# Altium footprint library Arduino_DUE_V02b.PcbLib: 41 footprints (part 3 of 3)
Each footprint in its own frame and in the unit in brackets; x right, y up, seen from the top. Pads: shape width x height; smd on the part's side, far side on the other; paste and mask are expansions set on the pad; w line width, h text height; cw(c..) or ccw(c..) is an arc to the next point about the centre after c.
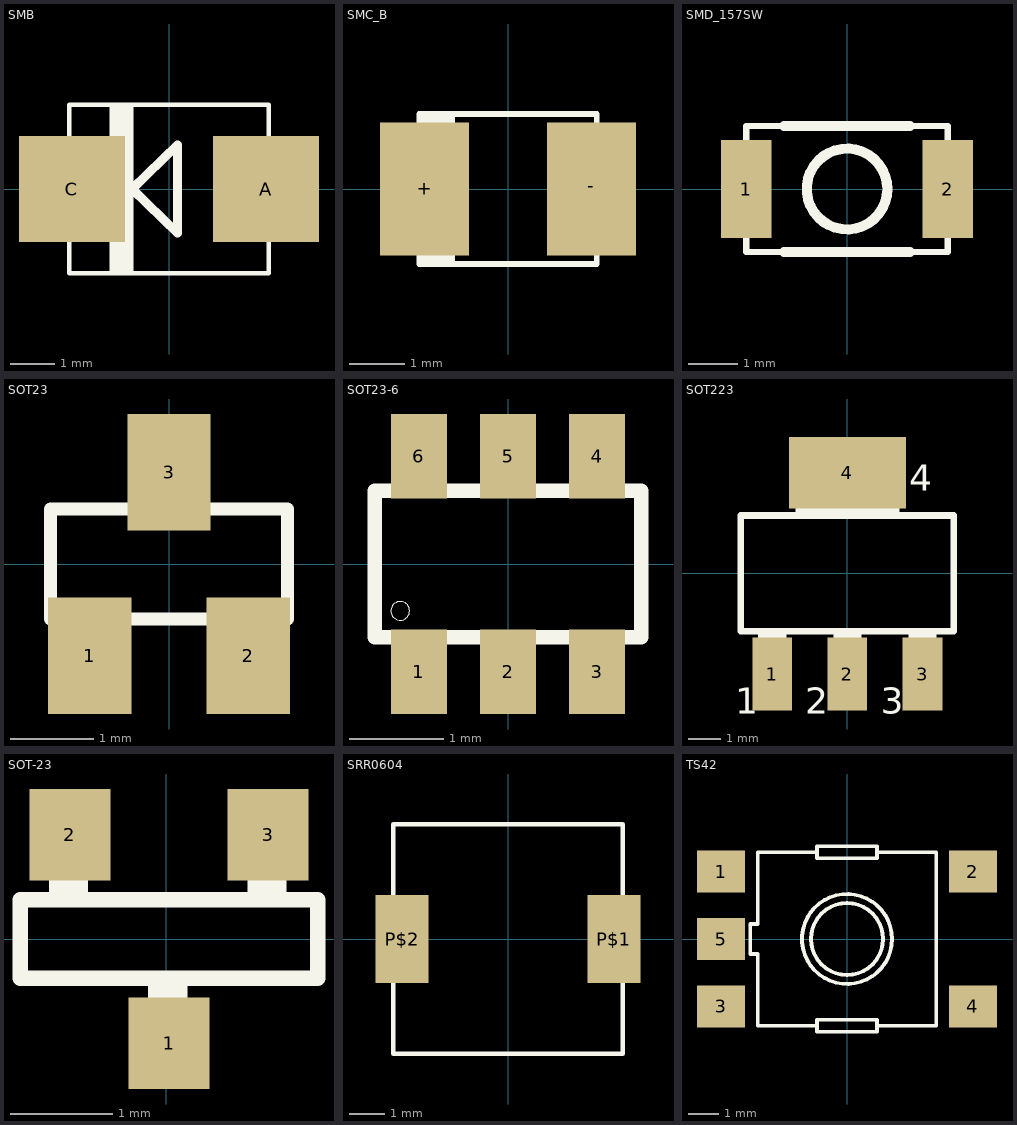
[diagram p2: the footprints below, top view; thin cyan lines are the x and y axes]

## SMB [mm]
pads (2):
  rect 2.4x2.4 smd: A(2.2,0) C(-2.2,0)
Top Overlay:
  rectangle: -1.35,-1.9 -0.8,1.9
  rectangle: 2.261,-1.092 2.794,1.092
  rectangle: -2.794,-1.092 -2.261,1.092
  lines w0.102: -2.261,-1.905 -2.261,1.905 2.261,1.905 2.261,-1.905 -2.261,-1.905
  lines w0.203: -0.83,0 0.193,-1 0.193,1 -0.83,0

## SMC_B [mm]
pads (2):
  rect 1.6x2.4 smd: +(-1.5,0) -(1.5,0)
Top Overlay:
  rectangle: -1.6,-1.35 -0.95,1.35
  region: 1.75,1.1 1.55,1.1 1.55,-1.1 1.75,-1.1
  rectangle: -1.75,-1.1 -1.55,1.1
  lines w0.102: -1.6,-1.35 -1.6,1.35 1.6,1.35 1.6,-1.35 -1.6,-1.35

## SMD_157SW [mil]
pads (2):
  rect 40x78 smd: 1(-80,0) 2(80,0)
Top Overlay:
  circle w5: c0,0 r32.01
  circle w8: c0,0 r32.01
  lines w5: -80,-50 80,-50 80,50 -80,50 -80,-50
  lines w8: -50,-50 50,-50 ; -50,50 50,50

## SOT23 [mm]
pads (3):
  rect 1x1.4 smd: 1(-0.95,-1.1) 2(0.95,-1.1) 3(0,1.1)
Top Overlay:
  rectangle: -1.168,-1.295 -0.711,-0.711
  rectangle: 0.711,-1.295 1.168,-0.711
  rectangle: -0.229,0.711 0.229,1.295
  lines w0.152: -1.422,-0.66 -1.422,0.66 1.422,0.66 1.422,-0.66 -1.422,-0.66

## SOT23-6 [mm]
pads (6):
  rect 0.6x0.9 smd: 1(-0.95,-1.15) 2(0,-1.15) 3(0.95,-1.15) 4(0.95,1.15) 5(0,1.15) 6(-0.95,1.15)
Top Overlay:
  circle w0.008: c-1.15,-0.5 r0.1
  rectangle: -1.2,0.8 -0.7,1.4
  rectangle: -0.25,0.8 0.25,1.4
  rectangle: 0.7,0.8 1.2,1.4
  rectangle: 0.7,-1.4 1.2,-0.8
  rectangle: -0.25,-1.4 0.25,-0.8
  rectangle: -1.2,-1.4 -0.7,-0.8
  lines w0.152: -1.423,-0.781 -1.423,0.781 1.422,0.781 1.422,-0.781 -1.423,-0.781

## SOT223 [mil]
pads (4):
  rect 48x88 smd: 1(-91,-122) 2(0,-122) 3(91,-122)
  rect 141.73x86.61 smd: 4(0,122.01)
Top Overlay:
  rectangle: 74,-144 108,-71
  rectangle: -108,-144 -74,-71
  rectangle: -17,-144 17,-71
  rectangle: -63,71 63,144
  rectangle: 74,-144 108,-71
  rectangle: -108,-144 -74,-71
  rectangle: -17,-144 17,-71
  rectangle: -63,71 63,144
  lines w8: -129,-70 -129,70 129,70 129,-70 -129,-70
  text "2" at -50.81,-170.37 h32
  text "1" at -135.93,-170 h32
  text "4" at 75,100 h32
  text "3" at 40.19,-170 h32

## SOT-23 [mil]
pads (3):
  rect 31x35 smd: 1(1,-40) 2(-37,40) 3(39,40)
Top Overlay:
  rectangle: -7,-37 8,-17
  rectangle: -45,17 -30,37
  rectangle: 31,17 46,37
  lines w6: -56,-15 -56,15 58,15 58,-15 -56,-15

## SRR0604 [mm]
pads (2):
  rect 1.5x2.5 smd: P$1(3,0) P$2(-3,0)
Top Overlay:
  lines w0.127: -3.25,-3.25 3.25,-3.25 3.25,3.25 -3.25,3.25 -3.25,-3.25

## TS42 [mm]
pads (5):
  rect 1.6x1.4 smd: 1(-4.2,2.25) 2(4.2,2.25) 3(-4.2,-2.25) 4(4.2,-2.25) 5(-4.2,0)
Top Layer:
  rectangle: 3.48,1.626 4.928,2.87
  rectangle: 3.48,-2.87 4.928,-1.626
  rectangle: -4.928,-2.87 -3.48,-1.626
  rectangle: -4.928,1.626 -3.48,2.87
  rectangle: -4.699,-0.381 -3.81,0.381
Top Overlay:
  circle w0.127: c0,0 r1.2
  circle w0.127: c0,0 r1.5
  circle w0.127: c0,0 r1.2
  circle w0.127: c0,0 r1.5
  lines w0.127: -3.227,-0.5 -2.977,-0.5 ; -3.227,-0.5 -3.227,0.5 ; -3.227,-0.5 -2.977,-0.5 ; -3.227,-0.5 -3.227,0.5 ; -3.227,0.5 -2.977,0.5 ; -3.227,0.5 -2.977,0.5 ; -2.977,-2.889 -1,-2.889 ; -2.977,-2.889 -2.977,-0.5 ; -2.977,-2.889 -1,-2.889 ; -2.977,-2.889 -2.977,-0.5 ; -2.977,0.5 -2.977,2.889 ; -2.977,0.5 -2.977,2.889 ; -2.977,2.889 -1,2.889 ; -2.977,2.889 -1,2.889 ; -1,-3.089 -1,-2.889 ; -1,-3.089 1,-3.089 ; -1,-3.089 -1,-2.889 ; -1,-3.089 1,-3.089 ; -1,-2.889 -1,-2.689 ; -1,-2.889 -1,-2.689 ; -1,-2.689 1,-2.689 ; -1,-2.689 1,-2.689 ; -1,2.689 -1,2.889 ; -1,2.689 1,2.689 ; -1,2.689 -1,2.889 ; -1,2.689 1,2.689 ; -1,2.889 -1,3.089 ; -1,2.889 -1,3.089 ; -1,3.089 1,3.089 ; -1,3.089 1,3.089 ; 1,-3.089 1,-2.889 ; 1,-3.089 1,-2.889 ; 1,-2.889 2.977,-2.889 ; 1,-2.889 1,-2.689 ; 1,-2.889 2.977,-2.889 ; 1,-2.889 1,-2.689 ; 1,2.689 1,2.889 ; 1,2.689 1,2.889 ; 1,2.889 2.977,2.889 ; 1,2.889 1,3.089 ; 1,2.889 2.977,2.889 ; 1,2.889 1,3.089 ; 2.977,-2.889 2.977,2.889 ; 2.977,-2.889 2.977,2.889